# Altium footprint library CommonPcb.PcbLib: 194 footprints (part 2 of 13)
Each footprint in its own frame and in the unit in brackets; x right, y up, seen from the top. Pads: shape width x height; smd on the part's side, far side on the other; paste and mask are expansions set on the pad; w line width, h text height; cw(c..) or ccw(c..) is an arc to the next point about the centre after c.
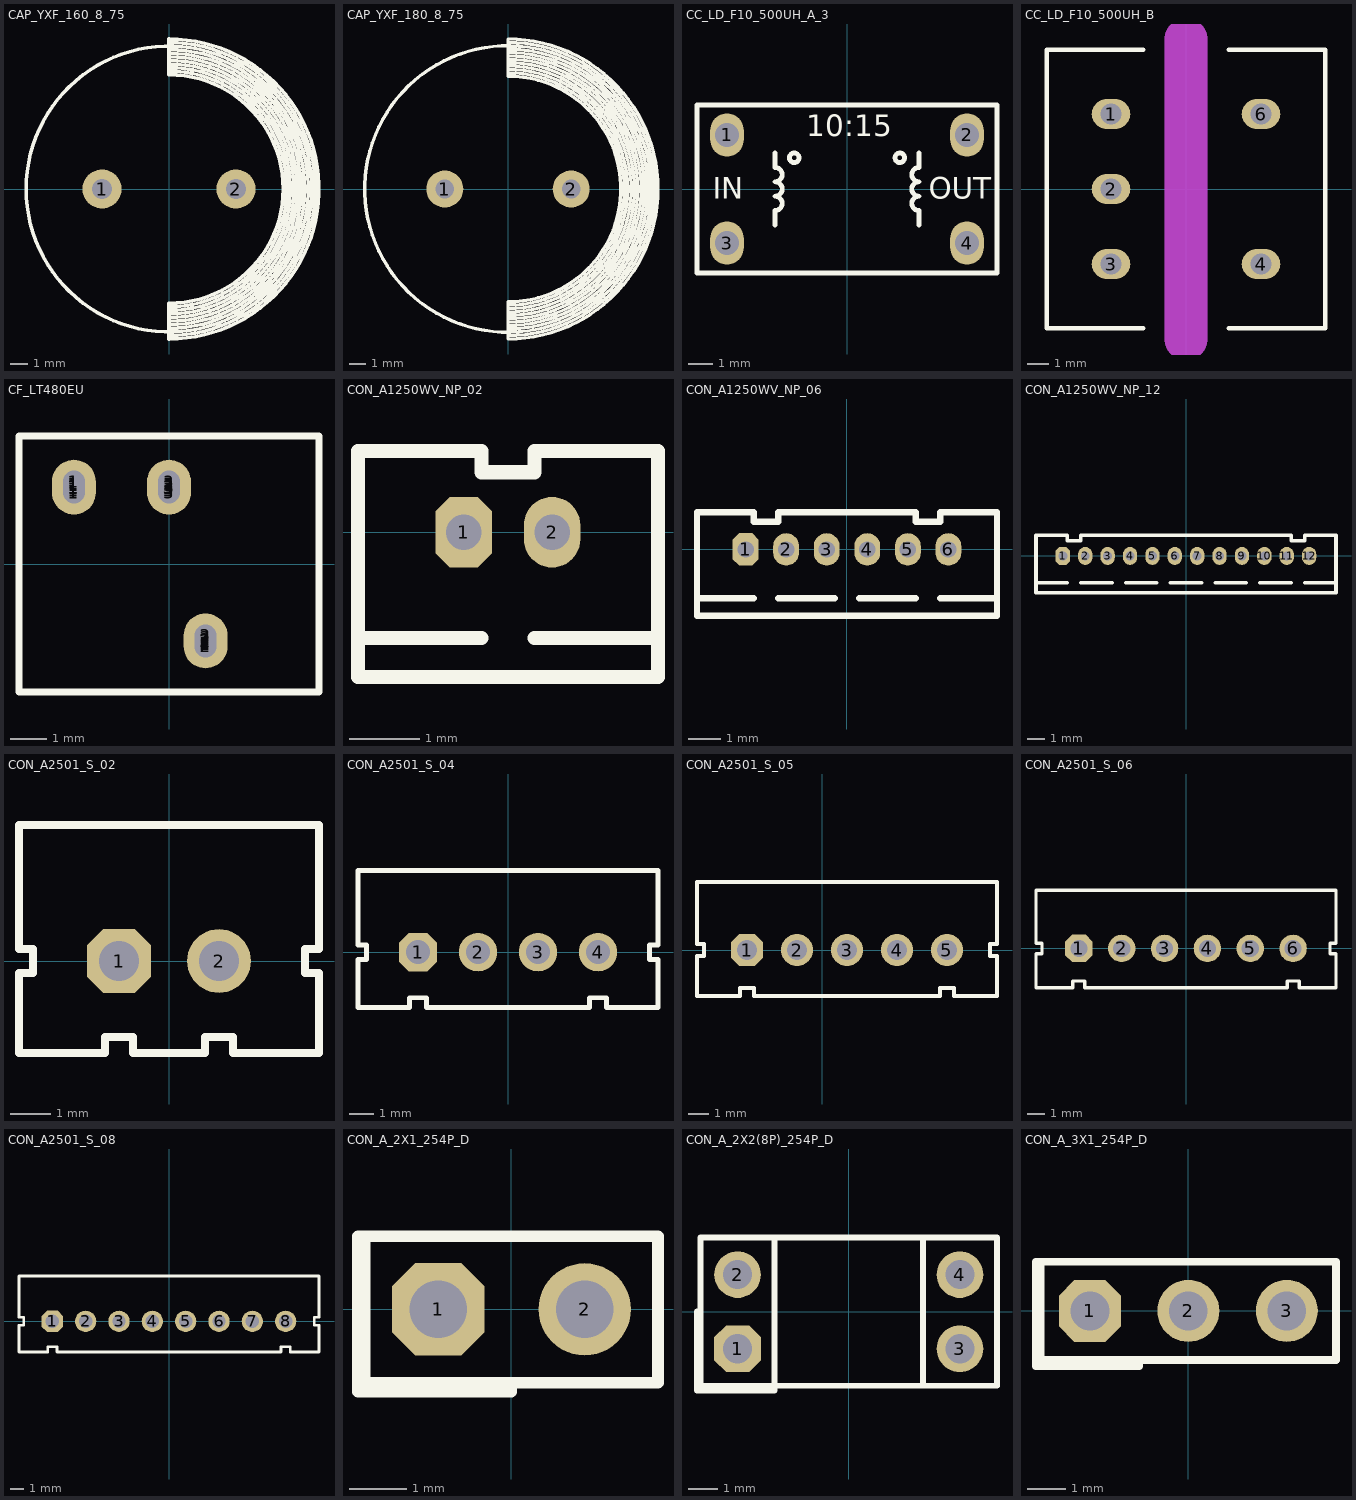
[diagram p1: the footprints below, top view; thin cyan lines are the x and y axes]

## CAP_YXF_160_8_75 [mm] "CAP POL"
pads (2):
  round 2.2 hole 1.1 mask+0.1: 1(-3.75,0) 2(3.75,0)
Top Overlay:
  circle w0.2: c0,0 r8
  lines w0.2: 0,-8.2 ccw(c0,0) 0,8.2 ; 0,-7.8 ccw(c0,0) 0,7.8 ; 0,-7.6 ccw(c0,0) 0,7.6 ; 0,-7.4 ccw(c0,0) 0,7.4 ; 0,-7.2 ccw(c0,0) 0,7.2 ; 0,-7 ccw(c0,0) 0,7 ; 0,-6.8 ccw(c0,0) 0,6.8 ; 0,-6.6 ccw(c0,0) 0,6.6 ; 0,-8.4 ccw(c0,0) 0,8.4 0,6.4 cw(c0,0) 0,-6.4 0,-8.4
3D body: height 0, standoff 0, extent -7.999,-7.999 7.999,7.999

## CAP_YXF_180_8_75 [mm] "CAP POL"
pads (2):
  round 2.2 hole 1.1 mask+0.1: 1(-3.75,0) 2(3.75,0)
Top Overlay:
  circle w0.2: c0,0 r8.5
  lines w0.2: 0,-8.7 ccw(c0,0) 0,8.7 ; 0,-8.3 ccw(c0,0) 0,8.3 ; 0,-8.1 ccw(c0,0) 0,8.1 ; 0,-7.9 ccw(c0,0) 0,7.9 ; 0,-7.7 ccw(c0,0) 0,7.7 ; 0,-7.5 ccw(c0,0) 0,7.5 ; 0,-7.3 ccw(c0,0) 0,7.3 ; 0,-7.1 ccw(c0,0) 0,7.1 ; 0,-6.9 ccw(c0,0) 0,6.9 ; 0,-8.9 ccw(c0,0) 0,8.9 0,6.7 cw(c0,0) 0,-6.7 0,-8.9
3D body: height 0, standoff 0, extent -8.499,-8.499 8.499,8.499

## CC_LD_F10_500UH_A_3 [mm] "CC_LD_F10_500UH_A_3"
pads (4):
  oval 1.4x1.8 hole 1 mask+0.1: 1(-5,2.25) 2(5,2.25) 3(-5,-2.25) 4(5,-2.25)
Top Overlay:
  circle w0.2: c-2.2,1.3 r0.2
  circle w0.2: c2.2,1.3 r0.2
  lines w0.2: -3,-1.5 -3,-0.9 ccw(c-3,-0.6) -3,-0.3 ccw(c-3,0) -3,0.3 ccw(c-3,0.6) -3,0.9 -3,1.5 ; 3,-1.5 3,-0.9 cw(c3,-0.6) 3,-0.3 cw(c3,0) 3,0.3 cw(c3,0.6) 3,0.9 3,1.5 ; -6.25,-3.5 6.25,-3.5 6.25,3.5 -6.25,3.5 -6.25,-3.5
  text "OUT" at 3.4,-0.4 h0.9
  text "IN" at -5.6,-0.4 h0.9
  text "10:15" at -1.7,2.2 h0.9
3D body: height 0, standoff 0, extent -6.249,-3.499 6.249,3.499

## CC_LD_F10_500UH_B [mm] "CC_LD_F10_500UH_B"
pads (5):
  oval 1.8x1.4 hole 1 mask+0.1: 1(-3.5,3.5) 2(-3.5,0) 3(-3.5,-3.5) 4(3.5,-3.5) 6(3.5,3.5)
Top Overlay:
  lines w0.2: -2,-6.5 -6.5,-6.5 -6.5,6.5 -2,6.5 ; 2,-6.5 6.5,-6.5 6.5,6.5 2,6.5
Keep-Out Layer:
  lines w2: 0,-7 0,7
Mechanical 1:
  lines w2: 0,-7 0,7
3D body: height 0, standoff 0, extent -6.499,-6.499 6.499,6.499

## CF_LT480EU [mm] "CF_LT480EU"
pads (21):
  round 0.6 hole 0.6: 1(-2.6,1.95) 1(-2.6,2) 1(-2.6,2.05) 1(-2.6,2.15) 1(-2.6,2.2) 1(-2.6,2.25) 2(1,-2.25) 2(1,-2.2) 2(1,-2.15) 2(1,-2.05) 2(1,-2) 2(1,-1.95) 3(0,1.95) 3(0,2) 3(0,2.05) 3(0,2.15) 3(0,2.2) 3(0,2.25)
  oval 1.2x1.5 hole 0.6 mask+0.1: 1(-2.6,2.1) 2(1,-2.1) 3(0,2.1)
Top Overlay:
  lines w0.2: -4.1,-3.5 -4.1,3.5 4.1,3.5 4.1,-3.5 -4.1,-3.5
3D body: height 0, standoff 0, extent -4.099,-3.499 4.099,3.499

## CON_A1250WV_NP_02 [mm] "JAT A1250 SERIES"
height 4.7
pads (2):
  oct 0.8x1 hole 0.5 mask+0.1: 1(-3.125,0)
  oval 0.8x1 hole 0.5 mask+0.1: 2(-1.875,0)
Top Overlay:
  lines w0.2: -4.625,-1.5 -2.875,-1.5 ; -2.125,-1.5 -0.375,-1.5 ; -2.875,0.85 -2.875,1.15 ; -2.875,0.85 -2.125,0.85 ; -2.875,0.85 -2.875,1.15 ; -2.875,1.15 -4.625,1.15 -4.625,-2.05 -0.375,-2.05 -0.375,1.15 -2.125,1.15 ; -2.125,0.85 -2.125,1.15 ; -2.125,0.85 -2.125,1.15
3D body: height 0, standoff 0, extent -4.625,-2.05 -0.375,1.15

## CON_A1250WV_NP_06 [mm] "JAT A1250 SERIES"
height 4.7
pads (6):
  oct 0.8x1 hole 0.5 mask+0.1: 1(-3.125,0)
  oval 0.8x1 hole 0.5 mask+0.1: 2(-1.875,0) 3(-0.625,0) 4(0.625,0) 5(1.875,0) 6(3.125,0)
Top Overlay:
  lines w0.2: -4.625,-1.5 -2.875,-1.5 ; -2.125,-1.5 -0.375,-1.5 ; 0.375,-1.5 2.125,-1.5 ; 2.875,-1.5 4.625,-1.5 ; -4.625,-2.05 -4.625,1.15 -2.875,1.15 -2.875,0.85 -2.125,0.85 -2.125,1.15 2.125,1.15 2.125,0.85 2.875,0.85 2.875,1.15 4.625,1.15 4.625,-2.05 -4.625,-2.05
3D body: height 0, standoff 0, extent -4.625,-2.05 4.625,1.15

## CON_A1250WV_NP_12 [mm] "JAT A1250 SERIES"
height 4.7
pads (12):
  oct 0.8x1 hole 0.5 mask+0.1: 1(-6.875,0)
  oval 0.8x1 hole 0.5 mask+0.1: 2(-5.625,0) 3(-4.375,0) 4(-3.125,0) 5(-1.875,0) 6(-0.625,0) 7(0.625,0) 8(1.875,0) 9(3.125,0) 10(4.375,0) 11(5.625,0) 12(6.875,0)
Top Overlay:
  lines w0.2: -8.375,-1.5 -6.625,-1.5 ; -5.875,-1.5 -4.125,-1.5 ; -3.375,-1.5 -1.625,-1.5 ; -0.875,-1.5 0.875,-1.5 ; 1.625,-1.5 3.375,-1.5 ; 4.125,-1.5 5.875,-1.5 ; 6.625,-1.5 8.375,-1.5 ; -8.375,-2.05 8.375,-2.05 8.375,1.15 6.625,1.15 6.625,0.85 5.875,0.85 5.875,1.15 -5.875,1.15 -5.875,0.85 -6.625,0.85 -6.625,1.15 -8.375,1.15 -8.375,-2.05
3D body: height 0, standoff 0, extent -8.375,-2.05 8.375,1.15

## CON_A2501_S_02 [mm] "Audia A2501-S"
pads (2):
  oct 1.6x1.6 hole 1 mask+0.1: 1(-1.25,0)
  round 1.6 hole 1 mask+0.1: 2(1.25,0)
Top Overlay:
  lines w0.2: -3.75,0.3 -3.75,3.4 3.75,3.4 3.75,0.3 3.4,0.3 3.4,-0.3 3.75,-0.3 3.75,-2.3 1.6,-2.3 1.6,-1.9 0.9,-1.9 0.9,-2.3 -0.9,-2.3 -0.9,-1.9 -1.6,-1.9 -1.6,-2.3 -3.75,-2.3 -3.75,-0.3 -3.4,-0.3 -3.4,0.3 -3.7,0.3
3D body: height 0, standoff 0, extent -3.749,-2.299 3.749,3.399

## CON_A2501_S_04 [mm] "Audia A2501-S"
pads (4):
  oct 1.6x1.6 hole 1 mask+0.1: 1(-3.75,0)
  round 1.6 hole 1 mask+0.1: 2(-1.25,0) 3(1.25,0) 4(3.75,0)
Top Overlay:
  lines w0.2: -6.25,0.3 -6.25,3.4 6.25,3.4 6.25,0.3 5.9,0.3 5.9,-0.3 6.25,-0.3 6.25,-2.3 4.1,-2.3 4.1,-1.9 3.4,-1.9 3.4,-2.3 -3.4,-2.3 -3.4,-1.9 -4.1,-1.9 -4.1,-2.3 -6.25,-2.3 -6.25,-0.3 -5.9,-0.3 -5.9,0.3 -6.2,0.3
3D body: height 0, standoff 0, extent -6.25,-2.3 6.25,3.4

## CON_A2501_S_05 [mm] "Audia A2501-S"
pads (5):
  oct 1.6x1.6 hole 1 mask+0.1: 1(-3.75,0)
  round 1.6 hole 1 mask+0.1: 2(-1.25,0) 3(1.25,0) 4(3.75,0) 5(6.25,0)
Top Overlay:
  lines w0.2: -6.25,0.3 -6.25,3.4 8.75,3.4 8.75,0.3 8.4,0.3 8.4,-0.3 8.75,-0.3 8.75,-2.3 6.6,-2.3 6.6,-1.9 5.9,-1.9 5.9,-2.3 -3.4,-2.3 -3.4,-1.9 -4.1,-1.9 -4.1,-2.3 -6.25,-2.3 -6.25,-0.3 -5.9,-0.3 -5.9,0.3 -6.2,0.3
3D body: height 0, standoff 0, extent -6.25,-2.3 8.75,3.4

## CON_A2501_S_06 [mm] "Audia A2501-S"
pads (6):
  oct 1.6x1.6 hole 1 mask+0.1: 1(-6.25,0)
  round 1.6 hole 1 mask+0.1: 2(-3.75,0) 3(-1.25,0) 4(1.25,0) 5(3.75,0) 6(6.25,0)
Top Overlay:
  lines w0.2: -8.75,0.3 -8.75,3.4 8.75,3.4 8.75,0.3 8.4,0.3 8.4,-0.3 8.75,-0.3 8.75,-2.3 6.6,-2.3 6.6,-1.9 5.9,-1.9 5.9,-2.3 -5.9,-2.3 -5.9,-1.9 -6.6,-1.9 -6.6,-2.3 -8.75,-2.3 -8.75,-0.3 -8.4,-0.3 -8.4,0.3 -8.7,0.3
3D body: height 0, standoff 0, extent -8.75,-2.3 8.75,3.4

## CON_A2501_S_08 [mm] "Audia A2501-S"
pads (8):
  oct 1.6x1.6 hole 1 mask+0.1: 1(-8.75,0)
  round 1.6 hole 1 mask+0.1: 2(-6.25,0) 3(-3.75,0) 4(-1.25,0) 5(1.25,0) 6(3.75,0) 7(6.25,0) 8(8.75,0)
Top Overlay:
  lines w0.2: -11.25,0.3 -11.25,3.4 11.25,3.4 11.25,0.3 10.9,0.3 10.9,-0.3 11.25,-0.3 11.25,-2.3 9.1,-2.3 9.1,-1.9 8.4,-1.9 8.4,-2.3 -8.4,-2.3 -8.4,-1.9 -9.1,-1.9 -9.1,-2.3 -11.25,-2.3 -11.25,-0.3 -10.9,-0.3 -10.9,0.3 -11.2,0.3
3D body: height 0, standoff 0, extent -11.25,-2.3 11.25,3.4

## CON_A_2X1_254P_D [mm] "Audia Series 460 25"
pads (2):
  oct 1.6x1.6 hole 1 mask+0.1: 1(-1.27,0)
  round 1.6 hole 1 mask+0.1: 2(1.27,0)
Top Overlay:
  lines w0.2: 0,-1.27 0,-1.43 -2.66,-1.43 -2.66,-1.27 -2.66,1.27 -2.54,1.27 ; -2.54,1.27 2.54,1.27 2.54,-1.27 -2.54,-1.27 -2.54,1.27
3D body: height 0, standoff 0, extent -2.539,-1.27 2.54,1.27

## CON_A_2X2(8P)_254P_D [mm] "Audia Series 460 25"
pads (4):
  oct 1.6x1.6 hole 1 mask+0.1: 1(-3.81,-1.27)
  round 1.6 hole 1 mask+0.1: 2(-3.81,1.27) 3(3.81,-1.27) 4(3.81,1.27)
Top Overlay:
  lines w0.2: -5.08,0 -5.2,0 -5.2,-2.54 -5.2,-2.7 -2.54,-2.7 -2.54,-2.54 -2.54,2.54 ; 2.54,-2.54 2.54,2.54 ; -5.08,-2.54 5.08,-2.54 5.08,2.54 -5.08,2.54 -5.08,-2.54
3D body: height 5.7, standoff 0, extent -5.08,-2.54 5.08,2.54

## CON_A_3X1_254P_D [mm] "Audia Series 460 25"
pads (3):
  oct 1.6x1.6 hole 1 mask+0.1: 1(-2.54,0)
  round 1.6 hole 1 mask+0.1: 2(0,0) 3(2.54,0)
Top Overlay:
  lines w0.2: -1.27,-1.27 -1.27,-1.43 -3.93,-1.43 -3.93,-1.27 -3.93,1.27 -3.81,1.27 ; -3.81,1.27 3.81,1.27 3.81,-1.27 -3.81,-1.27 -3.81,1.27
3D body: height 0, standoff 0, extent -3.809,-1.27 3.81,1.27